# Altium footprint library UMK316BJ105KD-T.PcbLib: 3 footprints
Each footprint in its own frame and in the unit in brackets; x right, y up, seen from the top. Pads: shape width x height; smd on the part's side, far side on the other; paste and mask are expansions set on the pad; w line width, h text height; cw(c..) or ccw(c..) is an arc to the next point about the centre after c.
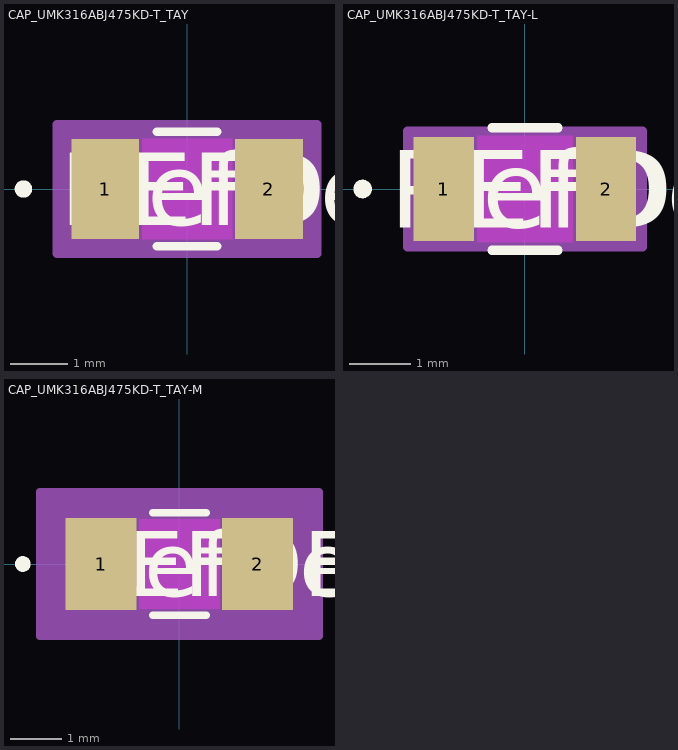
[diagram p0: the footprints below, top view; thin cyan lines are the x and y axes]

## CAP_UMK316ABJ475KD-T_TAY [mil]
pads (2):
  rect 46.78x69 smd paste+0 mask+0: 1(-56.39,0) 2(56.39,0)
Top Layer keep-out:
  region: -31,-32.5 -31,32.5 31,32.5 31,-32.5
Top Overlay:
  circle w6: c-112.78,0 r3
  lines w6: -20.89,-39.5 20.89,-39.5 ; -20.89,39.5 20.89,39.5
  text "RefDes" at -75,-25 h50
  text "REFDES" at -87.5,-25 h50
Keep-Out Layer:
  region: -31,-34.5 -31,34.5 31,34.5 31,-34.5
Mechanical 13:
  circle w0: c-51.39,0 r3
  lines w1: -66,-34.5 -66,34.5 ; -66,-34.5 -33,-34.5 -33,34.5 -66,34.5 ; -66,-34.5 66,-34.5 ; -66,-34.5 -66,34.5 ; -66,34.5 66,34.5 ; 66,-34.5 33,-34.5 33,34.5 66,34.5 ; 66,-34.5 66,34.5 ; 66,-34.5 66,34.5
  text "RefDes2" at -87.5,-25 h50
Mechanical 15:
  region: 89.78,-44.5 -89.78,-44.5 -89.78,44.5 89.78,44.5
  lines w6: -89.78,-44.5 -89.78,44.5 89.78,44.5 89.78,-44.5 -89.78,-44.5
3D body "CAP_UMK316ABJ475KD-T_TAY.step": height 37.01, standoff 0, extent -65.98,-34.49 65.98,34.49

## CAP_UMK316ABJ475KD-T_TAY-L [mil]
pads (2):
  rect 38.91x67.03 smd paste+0 mask+0: 1(-52.45,0) 2(52.45,0)
Top Layer keep-out:
  region: -31,-32.5 -31,32.5 31,32.5 31,-32.5
Top Overlay:
  circle w6: c-104.91,0 r3
  lines w6: -21.35,-39.5 21.35,-39.5 ; -21.35,39.5 21.35,39.5
  text "RefDes" at -75,-25 h50
  text "REFDES" at -87.5,-25 h50
Keep-Out Layer:
  region: -31,-34.5 -31,34.5 31,34.5 31,-34.5
Mechanical 13:
  circle w0: c-47.45,0 r3
  lines w1: -66,-34.5 -66,34.5 ; -66,-34.5 -33,-34.5 -33,34.5 -66,34.5 ; -66,-34.5 66,-34.5 ; -66,-34.5 -66,34.5 ; -66,34.5 66,34.5 ; 66,-34.5 33,-34.5 33,34.5 66,34.5 ; 66,-34.5 66,34.5 ; 66,-34.5 66,34.5
  text "RefDes2" at -87.5,-25 h50
Mechanical 15:
  region: 75.91,-37.52 -75.91,-37.52 -75.91,37.52 75.91,37.52
  lines w6: -75.91,-37.52 -75.91,37.52 75.91,37.52 75.91,-37.52 -75.91,-37.52
3D body "CAP_UMK316ABJ475KD-T_TAY.step": height 37.01, standoff 0, extent -65.98,-34.49 65.98,34.49

## CAP_UMK316ABJ475KD-T_TAY-M [mil]
pads (2):
  rect 54.65x70.97 smd paste+0 mask+0: 1(-60.33,0) 2(60.33,0)
Top Layer keep-out:
  region: -31,-32.5 -31,32.5 31,32.5 31,-32.5
Top Overlay:
  circle w6: c-120.65,0 r3
  lines w6: -20.53,-39.5 20.53,-39.5 ; -20.53,39.5 20.53,39.5
  text "RefDes" at -75,-25 h50
  text "REFDES" at -87.5,-25 h50
Keep-Out Layer:
  region: -31,-34.5 -31,34.5 31,34.5 31,-34.5
Mechanical 13:
  circle w0: c-55.33,0 r3
  lines w1: -66,-34.5 -66,34.5 ; -66,-34.5 -33,-34.5 -33,34.5 -66,34.5 ; -66,-34.5 66,-34.5 ; -66,-34.5 -66,34.5 ; -66,34.5 66,34.5 ; 66,-34.5 33,-34.5 33,34.5 66,34.5 ; 66,-34.5 66,34.5 ; 66,-34.5 66,34.5
  text "RefDes2" at -87.5,-25 h50
Mechanical 15:
  region: 107.65,-55.48 -107.65,-55.48 -107.65,55.48 107.65,55.48
  lines w6: -107.65,-55.48 -107.65,55.48 107.65,55.48 107.65,-55.48 -107.65,-55.48
3D body "CAP_UMK316ABJ475KD-T_TAY.step": height 37.01, standoff 0, extent -65.98,-34.49 65.98,34.49